# EAGLE library part LM4990MM (library Audio-Power-amlifier V.2.0)
LM4990 2 Watt Audio Power Amplifier with Selectable Shutdown Logic Level
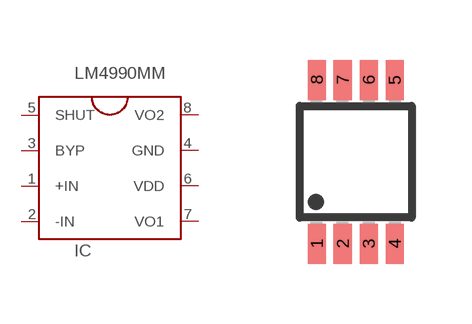
[diagram p196: symbol with the pads of MSOP8; footprint MSOP8]

Designator prefix IC

## LM4990MMLM4990MM_ONLY  [MSOP8]
1  +IN  in
2  -IN  in
3  BYP  in
4  GND  pwr
5  SHUT  in
6  VDD  pwr
7  VO1  out
8  VO2  out

## Footprint MSOP8 (pad centres in mm)
Micro Small Outline Package Grid .65mm
smd 0.45 x 1: 1 -0.975,-2.05; 2 -0.325,-2.05; 3 0.325,-2.05; 4 0.975,-2.05; 5 0.975,2.05; 6 0.325,2.05; 7 -0.325,2.05; 8 -0.975,2.05